# EAGLE library part NJW4131 (library my_ic)
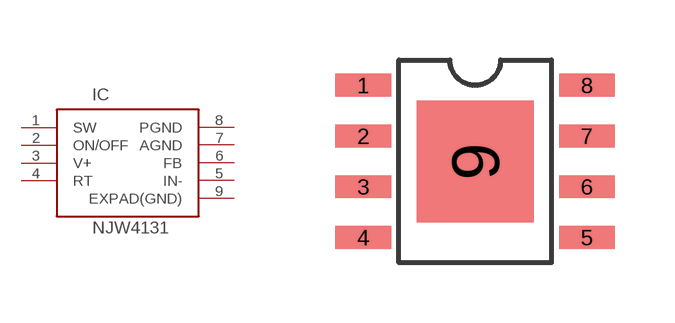
[diagram p4: symbol with the pads of HSOP8; footprint HSOP8]

Designator prefix IC

## NJW4131GM1-A  [HSOP8]
1  SW  out
2  ON/OFF  in
3  V+  pwr
4  RT
5  IN-  in
6  FB
7  AGND  pwr
8  PGND  pwr
9  EXPAD(GND)  pwr

## Footprint HSOP8 (pad centres in mm)
smd 1.397 x 0.572: 1 -2.794,1.905; 2 -2.794,0.635; 3 -2.794,-0.635; 4 -2.794,-1.905; 5 2.794,-1.905; 6 2.794,-0.635; 7 2.794,0.635; 8 2.794,1.905
smd 2.921 x 3.048: 9 0,0